# Altium footprint library micro-mc68000.PCBLIB: 13 footprints
Each footprint in its own frame and in the unit in brackets; x right, y up, seen from the top. Pads: shape width x height; smd on the part's side, far side on the other; paste and mask are expansions set on the pad; w line width, h text height; cw(c..) or ccw(c..) is an arc to the next point about the centre after c.
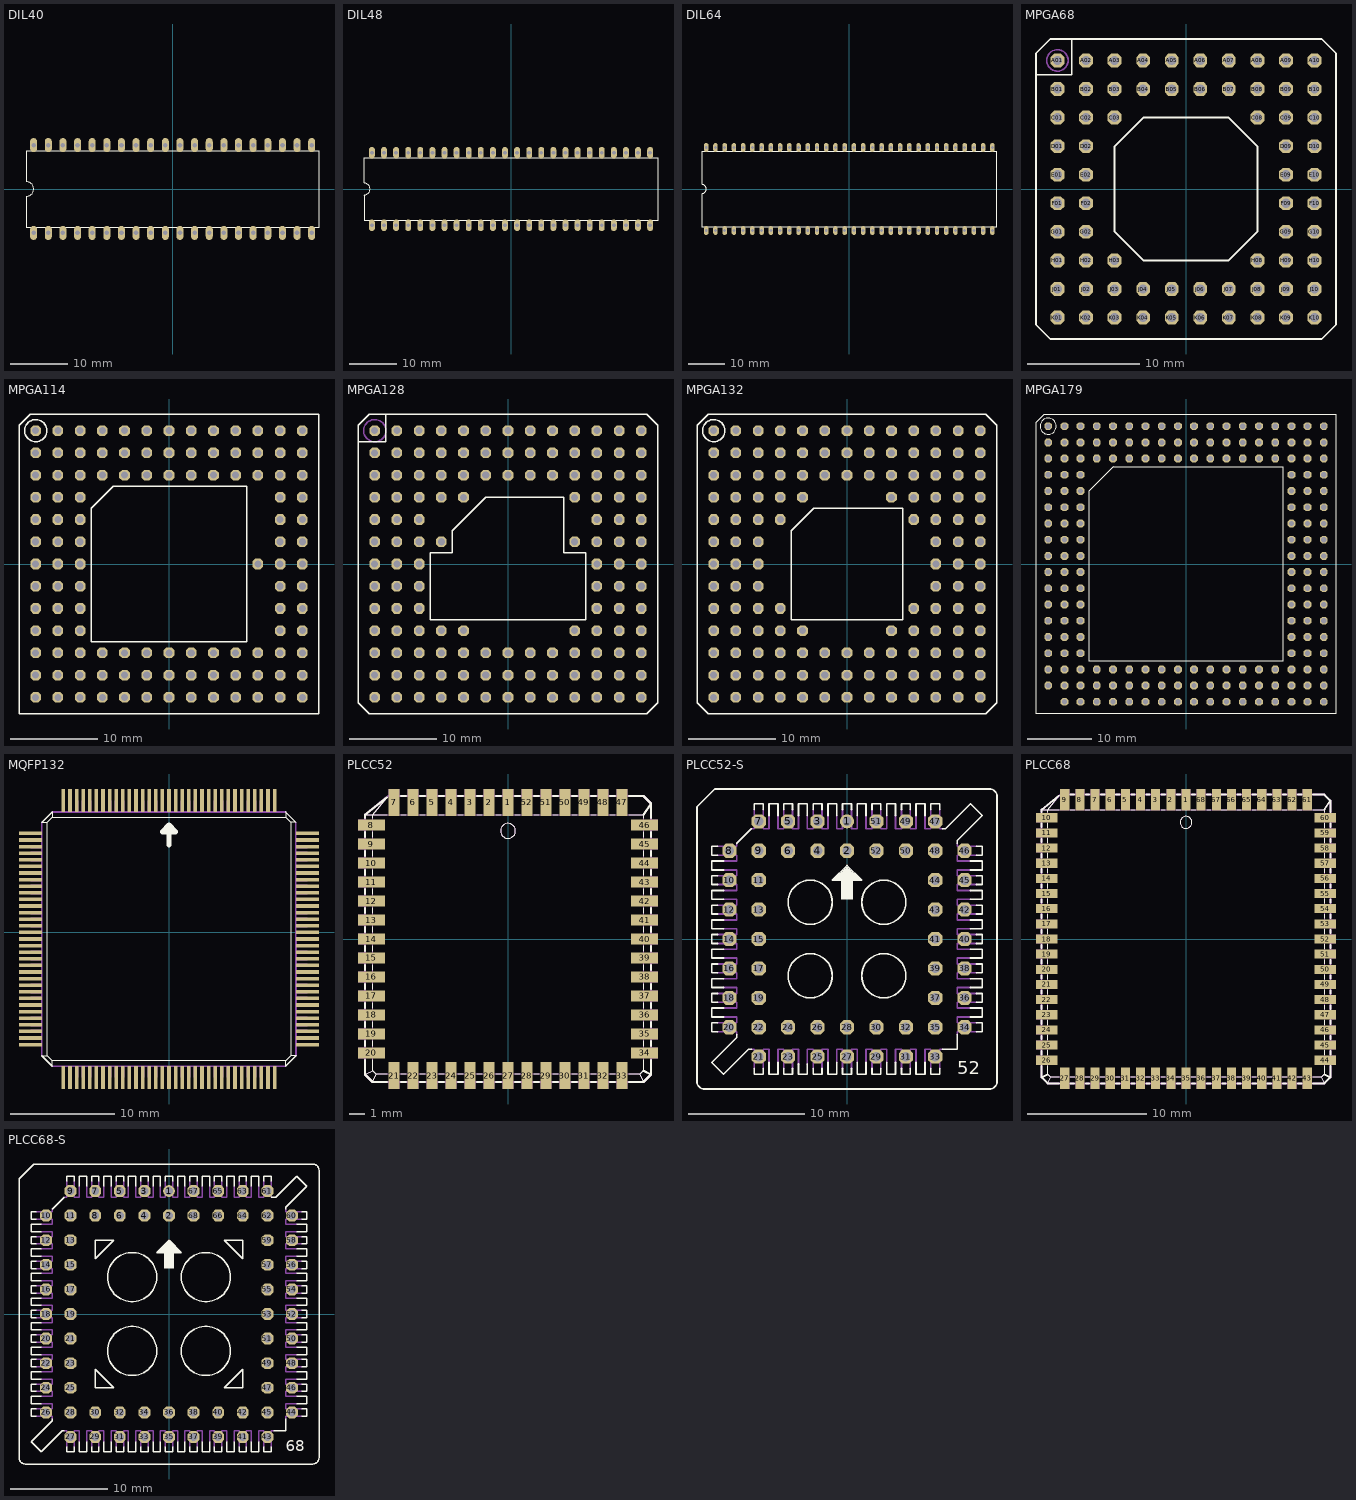
[diagram p0: the footprints below, top view; thin cyan lines are the x and y axes]

## DIL40 [mil]
pads (40):
  oval 48x96 hole 32: 1(-950,-300) 2(-850,-300) 3(-750,-300) 4(-650,-300) 5(-550,-300) 6(-450,-300) 7(-350,-300) 8(-250,-300) 9(-150,-300) 10(-50,-300) 11(50,-300) 12(150,-300) 13(250,-300) 14(350,-300) 15(450,-300) 16(550,-300) 17(650,-300) 18(750,-300) 19(850,-300) 20(950,-300) 21(950,300) 22(850,300) 23(750,300) 24(650,300) 25(550,300) 26(450,300) 27(350,300) 28(250,300) 29(150,300) 30(50,300) 31(-50,300) 32(-150,300) 33(-250,300) 34(-350,300) 35(-450,300) 36(-550,300) 37(-650,300) 38(-750,300) 39(-850,300) 40(-950,300)
Top Overlay:
  lines w6: -1000,-260 -1000,-50 ccw(c-1000,0) -1000,50 -1000,260 1000,260 1000,-260 -1000,-260

## DIL48 [mil]
pads (48):
  oval 48x96 hole 32: 1(-1150,-300) 2(-1050,-300) 3(-950,-300) 4(-850,-300) 5(-750,-300) 6(-650,-300) 7(-550,-300) 8(-450,-300) 9(-350,-300) 10(-250,-300) 11(-150,-300) 12(-50,-300) 13(50,-300) 14(150,-300) 15(250,-300) 16(350,-300) 17(450,-300) 18(550,-300) 19(650,-300) 20(750,-300) 21(850,-300) 22(950,-300) 23(1050,-300) 24(1150,-300) 25(1150,300) 26(1050,300) 27(950,300) 28(850,300) 29(750,300) 30(650,300) 31(550,300) 32(450,300) 33(350,300) 34(250,300) 35(150,300) 36(50,300) 37(-50,300) 38(-150,300) 39(-250,300) 40(-350,300) 41(-450,300) 42(-550,300) 43(-650,300) 44(-750,300) 45(-850,300) 46(-950,300) 47(-1050,300) 48(-1150,300)
Top Overlay:
  lines w6: -1215,-260 -1215,-50 ccw(c-1215,0) -1215,50 -1215,260 1215,260 1215,-260 -1215,-260

## DIL64 [mil]
pads (64):
  oval 48x96 hole 32: 1(-1550,-450) 2(-1450,-450) 3(-1350,-450) 4(-1250,-450) 5(-1150,-450) 6(-1050,-450) 7(-950,-450) 8(-850,-450) 9(-750,-450) 10(-650,-450) 11(-550,-450) 12(-450,-450) 13(-350,-450) 14(-250,-450) 15(-150,-450) 16(-50,-450) 17(50,-450) 18(150,-450) 19(250,-450) 20(350,-450) 21(450,-450) 22(550,-450) 23(650,-450) 24(750,-450) 25(850,-450) 26(950,-450) 27(1050,-450) 28(1150,-450) 29(1250,-450) 30(1350,-450) 31(1450,-450) 32(1550,-450) 33(1550,450) 34(1450,450) 35(1350,450) 36(1250,450) 37(1150,450) 38(1050,450) 39(950,450) 40(850,450) 41(750,450) 42(650,450) 43(550,450) 44(450,450) 45(350,450) 46(250,450) 47(150,450) 48(50,450) 49(-50,450) 50(-150,450) 51(-250,450) 52(-350,450) 53(-450,450) 54(-550,450) 55(-650,450) 56(-750,450) 57(-850,450) 58(-950,450) 59(-1050,450) 60(-1150,450) 61(-1250,450) 62(-1350,450) 63(-1450,450) 64(-1550,450)
Top Overlay:
  lines w6: -1600,-410 -1600,-50 ccw(c-1600,0) -1600,50 -1600,410 1600,410 1600,-410 -1600,-410

## MPGA68 [mil]
pads (68):
  oct 48x48 hole 32: A01(-450,450) A02(-350,450) A03(-250,450) A04(-150,450) A05(-50,450) A06(50,450) A07(150,450) A08(250,450) A09(350,450) A10(450,450) B01(-450,350) B02(-350,350) B03(-250,350) B04(-150,350) B05(-50,350) B06(50,350) B07(150,350) B08(250,350) B09(350,350) B10(450,350) C01(-450,250) C02(-350,250) C03(-250,250) C08(250,250) C09(350,250) C10(450,250) D01(-450,150) D02(-350,150) D09(350,150) D10(450,150) E01(-450,50) E02(-350,50) E09(350,50) E10(450,50) F01(-450,-50) F02(-350,-50) F09(350,-50) F10(450,-50) G01(-450,-150) G02(-350,-150) G09(350,-150) G10(450,-150) H01(-450,-250) H02(-350,-250) H03(-250,-250) H08(250,-250) H09(350,-250) H10(450,-250) J01(-450,-350) J02(-350,-350) J03(-250,-350) J04(-150,-350) J05(-50,-350) J06(50,-350) J07(150,-350) J08(250,-350) J09(350,-350) J10(450,-350) K01(-450,-450) K02(-350,-450) K03(-250,-450) K04(-150,-450) K05(-50,-450) K06(50,-450) K07(150,-450) K08(250,-450) K09(350,-450) K10(450,-450)
Top Overlay:
  lines w6: -525,400 -525,475 -475,525 -400,525 ; -525,400 -525,-475 -475,-525 475,-525 525,-475 525,475 475,525 -400,525 ; -525,400 -400,400 -400,525 ; -250,-150 -150,-250 150,-250 250,-150 250,150 150,250 -150,250 -250,150 -250,-150
Mechanical 16:
  circle w6: c-450,450 r37.5

## MPGA114 [mil]
pads (114):
  oct 48x48 hole 32: A01(-600,600) A02(-500,600) A03(-400,600) A04(-300,600) A05(-200,600) A06(-100,600) A07(0,600) A08(100,600) A09(200,600) A10(300,600) A11(400,600) A12(500,600) A13(600,600) B01(-600,500) B02(-500,500) B03(-400,500) B04(-300,500) B05(-200,500) B06(-100,500) B07(0,500) B08(100,500) B09(200,500) B10(300,500) B11(400,500) B12(500,500) B13(600,500) C01(-600,400) C02(-500,400) C03(-400,400) C04(-300,400) C05(-200,400) C06(-100,400) C07(0,400) C08(100,400) C09(200,400) C10(300,400) C11(400,400) C12(500,400) C13(600,400) D01(-600,300) D02(-500,300) D03(-400,300) D12(500,300) D13(600,300) E01(-600,200) E02(-500,200) E03(-400,200) E12(500,200) E13(600,200) F01(-600,100) F02(-500,100) F03(-400,100) F12(500,100) F13(600,100) G01(-600,0) G02(-500,0) G03(-400,0) G11(400,0) G12(500,0) G13(600,0) H01(-600,-100) H02(-500,-100) H03(-400,-100) H12(500,-100) H13(600,-100) J01(-600,-200) J02(-500,-200) J03(-400,-200) J12(500,-200) J13(600,-200) K01(-600,-300) K02(-500,-300) K03(-400,-300) K12(500,-300) K13(600,-300) L01(-600,-400) L02(-500,-400) L03(-400,-400) L04(-300,-400) L05(-200,-400) L06(-100,-400) L07(0,-400) L08(100,-400) L09(200,-400) L10(300,-400) L11(400,-400) L12(500,-400) L13(600,-400) M01(-600,-500) M02(-500,-500) M03(-400,-500) M04(-300,-500) M05(-200,-500) M06(-100,-500) M07(0,-500) M08(100,-500) M09(200,-500) M10(300,-500) M11(400,-500) M12(500,-500) M13(600,-500) N01(-600,-600) N02(-500,-600) N03(-400,-600) N04(-300,-600) N05(-200,-600) N06(-100,-600) N07(0,-600) N08(100,-600) N09(200,-600) N10(300,-600) N11(400,-600) N12(500,-600) N13(600,-600)
Top Overlay:
  circle w6: c-600,600 r50
  lines w6: -675,-675 675,-675 675,675 -625,675 -675,625 -675,-675 ; -350,-350 -350,250 -250,350 350,350 350,-350 -350,-350

## MPGA128 [mil]
pads (128):
  oct 48x48 hole 32: A01(-600,600) A02(-500,600) A03(-400,600) A04(-300,600) A05(-200,600) A06(-100,600) A07(0,600) A08(100,600) A09(200,600) A10(300,600) A11(400,600) A12(500,600) A13(600,600) B01(-600,500) B02(-500,500) B03(-400,500) B04(-300,500) B05(-200,500) B06(-100,500) B07(0,500) B08(100,500) B09(200,500) B10(300,500) B11(400,500) B12(500,500) B13(600,500) C01(-600,400) C02(-500,400) C03(-400,400) C04(-300,400) C05(-200,400) C06(-100,400) C07(0,400) C08(100,400) C09(200,400) C10(300,400) C11(400,400) C12(500,400) C13(600,400) D01(-600,300) D02(-500,300) D03(-400,300) D04(-300,300) D05(-200,300) D10(300,300) D11(400,300) D12(500,300) D13(600,300) E01(-600,200) E02(-500,200) E03(-400,200) E11(400,200) E12(500,200) E13(600,200) F01(-600,100) F02(-500,100) F03(-400,100) F04(-300,100) F10(300,100) F11(400,100) F12(500,100) F13(600,100) G01(-600,0) G02(-500,0) G03(-400,0) G11(400,0) G12(500,0) G13(600,0) H01(-600,-100) H02(-500,-100) H03(-400,-100) H11(400,-100) H12(500,-100) H13(600,-100) J01(-600,-200) J02(-500,-200) J03(-400,-200) J11(400,-200) J12(500,-200) J13(600,-200) K01(-600,-300) K02(-500,-300) K03(-400,-300) K04(-300,-300) K05(-200,-300) K10(300,-300) K11(400,-300) K12(500,-300) K13(600,-300) L01(-600,-400) L02(-500,-400) L03(-400,-400) L04(-300,-400) L05(-200,-400) L06(-100,-400) L07(0,-400) L08(100,-400) L09(200,-400) L10(300,-400) L11(400,-400) L12(500,-400) L13(600,-400) M01(-600,-500) M02(-500,-500) M03(-400,-500) M04(-300,-500) M05(-200,-500) M06(-100,-500) M07(0,-500) M08(100,-500) M09(200,-500) M10(300,-500) M11(400,-500) M12(500,-500) M13(600,-500) N01(-600,-600) N02(-500,-600) N03(-400,-600) N04(-300,-600) N05(-200,-600) N06(-100,-600) N07(0,-600) N08(100,-600) N09(200,-600) N10(300,-600) N11(400,-600) N12(500,-600) N13(600,-600)
Top Overlay:
  lines w6: -675,550 -675,-625 -625,-675 625,-675 675,-625 675,625 625,675 -550,675 ; -675,550 -675,625 -625,675 -550,675 ; -675,550 -550,550 -550,675 ; -350,-250 350,-250 350,50 250,50 250,300 -100,300 -250,150 -250,50 -350,50 -350,-250
Mechanical 16:
  circle w6: c-600,600 r50

## MPGA132 [mil]
pads (132):
  oct 48x48 hole 32: A01(-600,600) A02(-500,600) A03(-400,600) A04(-300,600) A05(-200,600) A06(-100,600) A07(0,600) A08(100,600) A09(200,600) A10(300,600) A11(400,600) A12(500,600) A13(600,600) B01(-600,500) B02(-500,500) B03(-400,500) B04(-300,500) B05(-200,500) B06(-100,500) B07(0,500) B08(100,500) B09(200,500) B10(300,500) B11(400,500) B12(500,500) B13(600,500) C01(-600,400) C02(-500,400) C03(-400,400) C04(-300,400) C05(-200,400) C06(-100,400) C07(0,400) C08(100,400) C09(200,400) C10(300,400) C11(400,400) C12(500,400) C13(600,400) D01(-600,300) D02(-500,300) D03(-400,300) D04(-300,300) D05(-200,300) D09(200,300) D10(300,300) D11(400,300) D12(500,300) D13(600,300) E01(-600,200) E02(-500,200) E03(-400,200) E04(-300,200) E10(300,200) E11(400,200) E12(500,200) E13(600,200) F01(-600,100) F02(-500,100) F03(-400,100) F11(400,100) F12(500,100) F13(600,100) G01(-600,0) G02(-500,0) G03(-400,0) G11(400,0) G12(500,0) G13(600,0) H01(-600,-100) H02(-500,-100) H03(-400,-100) H11(400,-100) H12(500,-100) H13(600,-100) J01(-600,-200) J02(-500,-200) J03(-400,-200) J04(-300,-200) J10(300,-200) J11(400,-200) J12(500,-200) J13(600,-200) K01(-600,-300) K02(-500,-300) K03(-400,-300) K04(-300,-300) K05(-200,-300) K09(200,-300) K10(300,-300) K11(400,-300) K12(500,-300) K13(600,-300) L01(-600,-400) L02(-500,-400) L03(-400,-400) L04(-300,-400) L05(-200,-400) L06(-100,-400) L07(0,-400) L08(100,-400) L09(200,-400) L10(300,-400) L11(400,-400) L12(500,-400) L13(600,-400) M01(-600,-500) M02(-500,-500) M03(-400,-500) M04(-300,-500) M05(-200,-500) M06(-100,-500) M07(0,-500) M08(100,-500) M09(200,-500) M10(300,-500) M11(400,-500) M12(500,-500) M13(600,-500) N01(-600,-600) N02(-500,-600) N03(-400,-600) N04(-300,-600) N05(-200,-600) N06(-100,-600) N07(0,-600) N08(100,-600) N09(200,-600) N10(300,-600) N11(400,-600) N12(500,-600) N13(600,-600)
Top Overlay:
  circle w6: c-600,600 r50
  lines w6: -675,-625 -625,-675 625,-675 675,-625 675,625 625,675 -625,675 -675,625 -675,-625 ; -250,-250 250,-250 250,250 -150,250 -250,150 -250,-250

## MPGA179 [mil]
pads (179):
  oct 48x48 hole 32: A01(-850,850) A02(-750,850) A03(-650,850) A04(-550,850) A05(-450,850) A06(-350,850) A07(-250,850) A08(-150,850) A09(-50,850) A10(50,850) A11(150,850) A12(250,850) A13(350,850) A14(450,850) A15(550,850) A16(650,850) A17(750,850) A18(850,850) B01(-850,750) B02(-750,750) B03(-650,750) B04(-550,750) B05(-450,750) B06(-350,750) B07(-250,750) B08(-150,750) B09(-50,750) B10(50,750) B11(150,750) B12(250,750) B13(350,750) B14(450,750) B15(550,750) B16(650,750) B17(750,750) B18(850,750) C01(-850,650) C02(-750,650) C03(-650,650) C04(-550,650) C05(-450,650) C06(-350,650) C07(-250,650) C08(-150,650) C09(-50,650) C10(50,650) C11(150,650) C12(250,650) C13(350,650) C14(450,650) C15(550,650) C16(650,650) C17(750,650) C18(850,650) D01(-850,550) D02(-750,550) D03(-650,550) D16(650,550) D17(750,550) D18(850,550) E01(-850,450) E02(-750,450) E03(-650,450) E16(650,450) E17(750,450) E18(850,450) F01(-850,350) F02(-750,350) F03(-650,350) F16(650,350) F17(750,350) F18(850,350) G01(-850,250) G02(-750,250) G03(-650,250) G16(650,250) G17(750,250) G18(850,250) H01(-850,150) H02(-750,150) H03(-650,150) H16(650,150) H17(750,150) H18(850,150) J01(-850,50) J02(-750,50) J03(-650,50) J16(650,50) J17(750,50) J18(850,50) K01(-850,-50) K02(-750,-50) K03(-650,-50) K16(650,-50) K17(750,-50) K18(850,-50) L01(-850,-150) L02(-750,-150) L03(-650,-150) L16(650,-150) L17(750,-150) L18(850,-150) M01(-850,-250) M02(-750,-250) M03(-650,-250) M16(650,-250) M17(750,-250) M18(850,-250) N01(-850,-350) N02(-750,-350) N03(-650,-350) N16(650,-350) N17(750,-350) N18(850,-350) P01(-850,-450) P02(-750,-450) P03(-650,-450) P16(650,-450) P17(750,-450) P18(850,-450) Q01(-850,-550) Q02(-750,-550) Q03(-650,-550) Q16(650,-550) Q17(750,-550) Q18(850,-550) R01(-850,-650) R02(-750,-650) R03(-650,-650) R04(-550,-650) R05(-450,-650) R06(-350,-650) R07(-250,-650) R08(-150,-650) R09(-50,-650) R10(50,-650) R11(150,-650) R12(250,-650) R13(350,-650) R14(450,-650) R15(550,-650) R16(650,-650) R17(750,-650) R18(850,-650) S01(-850,-750) S02(-750,-750) S03(-650,-750) S04(-550,-750) S05(-450,-750) S06(-350,-750) S07(-250,-750) S08(-150,-750) S09(-50,-750) S10(50,-750) S11(150,-750) S12(250,-750) S13(350,-750) S14(450,-750) S15(550,-750) S16(650,-750) S17(750,-750) S18(850,-750) T02(-750,-850) T03(-650,-850) T04(-550,-850) T05(-450,-850) T06(-350,-850) T07(-250,-850) T08(-150,-850) T09(-50,-850) T10(50,-850) T11(150,-850) T12(250,-850) T13(350,-850) T14(450,-850) T15(550,-850) T16(650,-850) T17(750,-850) T18(850,-850)
Top Overlay:
  circle w6: c-850,850 r50
  lines w6: -925,-925 925,-925 925,925 -875,925 -925,875 -925,-925 ; -600,-600 600,-600 600,600 -450,600 -600,450 -600,-600

## MQFP132 [mm]
pads (132):
  rect 0.35x2.2 smd: 1(0,12.7) 2(-0.635,12.7) 3(-1.27,12.7) 4(-1.905,12.7) 5(-2.54,12.7) 6(-3.175,12.7) 7(-3.81,12.7) 8(-4.445,12.7) 9(-5.08,12.7) 10(-5.715,12.7) 11(-6.35,12.7) 12(-6.985,12.7) 13(-7.62,12.7) 14(-8.255,12.7) 15(-8.89,12.7) 16(-9.525,12.7) 17(-10.16,12.7) 51(-10.16,-13.97) 52(-9.525,-13.97) 53(-8.89,-13.97) 54(-8.255,-13.97) 55(-7.62,-13.97) 56(-6.985,-13.97) 57(-6.35,-13.97) 58(-5.715,-13.97) 59(-5.08,-13.97) 60(-4.445,-13.97) 61(-3.81,-13.97) 62(-3.175,-13.97) 63(-2.54,-13.97) 64(-1.905,-13.97) 65(-1.27,-13.97) 66(-0.635,-13.97) 67(0,-13.97) 68(0.635,-13.97) 69(1.27,-13.97) 70(1.905,-13.97) 71(2.54,-13.97) 72(3.175,-13.97) 73(3.81,-13.97) 74(4.445,-13.97) 75(5.08,-13.97) 76(5.715,-13.97) 77(6.35,-13.97) 78(6.985,-13.97) 79(7.62,-13.97) 80(8.255,-13.97) 81(8.89,-13.97) 82(9.525,-13.97) 83(10.16,-13.97) 117(10.16,12.7) 118(9.525,12.7) 119(8.89,12.7) 120(8.255,12.7) 121(7.62,12.7) 122(6.985,12.7) 123(6.35,12.7) 124(5.715,12.7) 125(5.08,12.7) 126(4.445,12.7) 127(3.81,12.7) 128(3.175,12.7) 129(2.54,12.7) 130(1.905,12.7) 131(1.27,12.7) 132(0.635,12.7)
  rect 2.2x0.35 smd: 18(-13.335,9.525) 19(-13.335,8.89) 20(-13.335,8.255) 21(-13.335,7.62) 22(-13.335,6.985) 23(-13.335,6.35) 24(-13.335,5.715) 25(-13.335,5.08) 26(-13.335,4.445) 27(-13.335,3.81) 28(-13.335,3.175) 29(-13.335,2.54) 30(-13.335,1.905) 31(-13.335,1.27) 32(-13.335,0.635) 33(-13.335,0) 34(-13.335,-0.635) 35(-13.335,-1.27) 36(-13.335,-1.905) 37(-13.335,-2.54) 38(-13.335,-3.175) 39(-13.335,-3.81) 40(-13.335,-4.445) 41(-13.335,-5.08) 42(-13.335,-5.715) 43(-13.335,-6.35) 44(-13.335,-6.985) 45(-13.335,-7.62) 46(-13.335,-8.255) 47(-13.335,-8.89) 48(-13.335,-9.525) 49(-13.335,-10.16) 50(-13.335,-10.795) 84(13.335,-10.795) 85(13.335,-10.16) 86(13.335,-9.525) 87(13.335,-8.89) 88(13.335,-8.255) 89(13.335,-7.62) 90(13.335,-6.985) 91(13.335,-6.35) 92(13.335,-5.715) 93(13.335,-5.08) 94(13.335,-4.445) 95(13.335,-3.81) 96(13.335,-3.175) 97(13.335,-2.54) 98(13.335,-1.905) 99(13.335,-1.27) 100(13.335,-0.635) 101(13.335,0) 102(13.335,0.635) 103(13.335,1.27) 104(13.335,1.905) 105(13.335,2.54) 106(13.335,3.175) 107(13.335,3.81) 108(13.335,4.445) 109(13.335,5.08) 110(13.335,5.715) 111(13.335,6.35) 112(13.335,6.985) 113(13.335,7.62) 114(13.335,8.255) 115(13.335,8.89) 116(13.335,9.525)
Top Overlay:
  lines w0.051: -12.233,-11.868 -11.733,-11.868 ; -12.233,10.583 -11.733,10.583 ; -11.233,-12.868 -11.233,-12.368 ; -11.233,11.583 -11.233,11.083 ; 11.217,11.583 11.217,11.083 ; 11.218,-12.868 11.218,-12.368 ; 12.218,-11.868 11.718,-11.868 ; 12.217,10.583 11.717,10.583 ; -11.733,-11.868 -11.733,10.583 ; -11.733,-11.868 -11.233,-12.368 ; -11.733,10.583 -11.233,11.083 ; -11.233,-12.368 11.218,-12.368 ; -11.233,11.083 11.217,11.083 ; 11.217,11.083 11.717,10.583 ; 11.218,-12.368 11.718,-11.868 ; 11.717,10.583 11.718,-11.868
  lines w0.152: -12.233,-11.868 -11.233,-12.868 ; -12.233,10.583 -11.233,11.583 ; 11.217,11.583 12.217,10.583 ; 11.218,-12.868 12.218,-11.868
  lines w0.508: 0,8.414 0,10.319 ; 0,10.319 0.635,9.684 -0.635,9.684 0,10.319
Mechanical 16:
  rectangle: 1.111,11.589 1.429,12.7
  rectangle: 1.746,11.589 2.064,12.7
  rectangle: 2.381,11.589 2.699,12.7
  rectangle: 3.016,11.589 3.334,12.7
  rectangle: 3.651,11.589 3.969,12.7
  rectangle: 4.286,11.589 4.604,12.7
  rectangle: 0.476,11.589 0.794,12.7
  rectangle: -0.159,11.589 0.159,12.7
  rectangle: -0.794,11.589 -0.476,12.7
  rectangle: -1.429,11.589 -1.111,12.7
  rectangle: -2.064,11.589 -1.746,12.7
  rectangle: -2.699,11.589 -2.381,12.7
  rectangle: -3.334,11.589 -3.016,12.7
  rectangle: -3.969,11.589 -3.651,12.7
  rectangle: -4.604,11.589 -4.286,12.7
  rectangle: -5.239,11.589 -4.921,12.7
  rectangle: -5.874,11.589 -5.556,12.7
  rectangle: -6.509,11.589 -6.191,12.7
  rectangle: -7.144,11.589 -6.826,12.7
  rectangle: -7.779,11.589 -7.461,12.7
  rectangle: -8.414,11.589 -8.096,12.7
  rectangle: -9.049,11.589 -8.731,12.7
  rectangle: -9.684,11.589 -9.366,12.7
  rectangle: -10.319,11.589 -10.001,12.7
  rectangle: 4.921,11.589 5.239,12.7
  rectangle: 5.556,11.589 5.874,12.7
  rectangle: 6.191,11.589 6.509,12.7
  rectangle: 6.826,11.589 7.144,12.7
  rectangle: 7.461,11.589 7.779,12.7
  rectangle: 8.096,11.589 8.414,12.7
  rectangle: 8.731,11.589 9.049,12.7
  rectangle: 9.366,11.589 9.684,12.7
  rectangle: 10.001,11.589 10.319,12.7
  rectangle: 12.224,9.366 13.335,9.684
  rectangle: 12.224,8.731 13.335,9.049
  rectangle: 12.224,8.096 13.335,8.414
  rectangle: 12.224,7.461 13.335,7.779
  rectangle: 12.224,6.826 13.335,7.144
  rectangle: 12.224,6.191 13.335,6.509
  rectangle: 12.224,5.556 13.335,5.874
  rectangle: 12.224,4.921 13.335,5.239
  rectangle: 12.224,4.286 13.335,4.604
  rectangle: 12.224,3.651 13.335,3.969
  rectangle: 12.224,3.016 13.335,3.334
  rectangle: 12.224,2.381 13.335,2.699
  rectangle: 12.224,1.746 13.335,2.064
  rectangle: 12.224,1.111 13.335,1.429
  rectangle: 12.224,0.476 13.335,0.794
  rectangle: 12.224,-0.159 13.335,0.159
  rectangle: 12.224,-0.794 13.335,-0.476
  rectangle: 12.224,-1.429 13.335,-1.111
  rectangle: 12.224,-2.064 13.335,-1.746
  rectangle: 12.224,-2.699 13.335,-2.381
  rectangle: 12.224,-3.334 13.335,-3.016
  rectangle: 12.224,-3.969 13.335,-3.651
  rectangle: 12.224,-4.604 13.335,-4.286
  rectangle: 12.224,-5.239 13.335,-4.921
  rectangle: 12.224,-5.874 13.335,-5.556
  rectangle: 12.224,-6.509 13.335,-6.191
  rectangle: 12.224,-7.144 13.335,-6.826
  rectangle: 12.224,-7.779 13.335,-7.461
  rectangle: 12.224,-8.414 13.335,-8.096
  rectangle: 12.224,-9.049 13.335,-8.731
  rectangle: 12.224,-9.684 13.335,-9.366
  rectangle: 12.224,-10.319 13.335,-10.001
  rectangle: 12.224,-10.954 13.335,-10.636
  rectangle: 10.001,-13.97 10.319,-12.859
  rectangle: 9.366,-13.97 9.684,-12.859
  rectangle: 8.731,-13.97 9.049,-12.859
  rectangle: 8.096,-13.97 8.414,-12.859
  rectangle: 7.461,-13.97 7.779,-12.859
  rectangle: 6.826,-13.97 7.144,-12.859
  rectangle: 6.191,-13.97 6.509,-12.859
  rectangle: 5.556,-13.97 5.874,-12.859
  rectangle: 4.921,-13.97 5.239,-12.859
  rectangle: 4.286,-13.97 4.604,-12.859
  rectangle: 3.651,-13.97 3.969,-12.859
  rectangle: 3.016,-13.97 3.334,-12.859
  rectangle: 2.381,-13.97 2.699,-12.859
  rectangle: 1.746,-13.97 2.064,-12.859
  rectangle: 1.111,-13.97 1.429,-12.859
  rectangle: 0.476,-13.97 0.794,-12.859
  rectangle: -0.159,-13.97 0.159,-12.859
  rectangle: -0.794,-13.97 -0.476,-12.859
  rectangle: -1.429,-13.97 -1.111,-12.859
  rectangle: -2.064,-13.97 -1.746,-12.859
  rectangle: -2.699,-13.97 -2.381,-12.859
  rectangle: -3.334,-13.97 -3.016,-12.859
  rectangle: -3.969,-13.97 -3.651,-12.859
  rectangle: -4.604,-13.97 -4.286,-12.859
  rectangle: -5.239,-13.97 -4.921,-12.859
  rectangle: -5.874,-13.97 -5.556,-12.859
  rectangle: -6.509,-13.97 -6.191,-12.859
  rectangle: -7.144,-13.97 -6.826,-12.859
  rectangle: -7.779,-13.97 -7.461,-12.859
  rectangle: -8.414,-13.97 -8.096,-12.859
  rectangle: -9.049,-13.97 -8.731,-12.859
  rectangle: -9.684,-13.97 -9.366,-12.859
  rectangle: -10.319,-13.97 -10.001,-12.859
  rectangle: -13.335,-10.954 -12.224,-10.636
  rectangle: -13.335,-10.319 -12.224,-10.001
  rectangle: -13.335,-9.684 -12.224,-9.366
  rectangle: -13.335,-9.049 -12.224,-8.731
  rectangle: -13.335,-8.414 -12.224,-8.096
  rectangle: -13.335,-7.779 -12.224,-7.461
  rectangle: -13.335,-7.144 -12.224,-6.826
  rectangle: -13.335,-6.509 -12.224,-6.191
  rectangle: -13.335,-5.874 -12.224,-5.556
  rectangle: -13.335,-5.239 -12.224,-4.921
  rectangle: -13.335,-4.604 -12.224,-4.286
  rectangle: -13.335,-3.969 -12.224,-3.651
  rectangle: -13.335,-3.334 -12.224,-3.016
  rectangle: -13.335,-2.699 -12.224,-2.381
  rectangle: -13.335,-2.064 -12.224,-1.746
  rectangle: -13.335,-1.429 -12.224,-1.111
  rectangle: -13.335,-0.794 -12.224,-0.476
  rectangle: -13.335,-0.159 -12.224,0.159
  rectangle: -13.335,0.476 -12.224,0.794
  rectangle: -13.335,1.111 -12.224,1.429
  rectangle: -13.335,1.746 -12.224,2.064
  rectangle: -13.335,2.381 -12.224,2.699
  rectangle: -13.335,3.016 -12.224,3.334
  rectangle: -13.335,3.651 -12.224,3.969
  rectangle: -13.335,4.286 -12.224,4.604
  rectangle: -13.335,4.921 -12.224,5.239
  rectangle: -13.335,5.556 -12.224,5.874
  rectangle: -13.335,6.191 -12.224,6.509
  rectangle: -13.335,6.826 -12.224,7.144
  rectangle: -13.335,7.461 -12.224,7.779
  rectangle: -13.335,8.096 -12.224,8.414
  rectangle: -13.335,9.366 -12.224,9.684
  lines w0.152: -12.233,-11.868 -12.233,10.583 ; -11.233,-12.868 11.218,-12.868 ; -11.233,11.583 11.217,11.583 ; 12.218,-11.868 12.217,10.583

## PLCC52 [mil]
pads (52):
  rect 29.92x70.87 smd: 1(0,359.45) 2(-50,359.45) 3(-100,359.45) 4(-150,359.45) 5(-200,359.45) 6(-250,359.45) 7(-300,359.45) 21(-300,-359.45) 22(-250,-359.45) 23(-200,-359.45) 24(-150,-359.45) 25(-100,-359.45) 26(-50,-359.45) 27(0,-359.45) 28(50,-359.45) 29(100,-359.45) 30(150,-359.45) 31(200,-359.45) 32(250,-359.45) 33(300,-359.45) 47(300,359.45) 48(250,359.45) 49(200,359.45) 50(150,359.45) 51(100,359.45) 52(50,359.45)
  rect 70.87x29.92 smd: 8(-359.45,300) 9(-359.45,250) 10(-359.45,200) 11(-359.45,150) 12(-359.45,100) 13(-359.45,50) 14(-359.45,0) 15(-359.45,-50) 16(-359.45,-100) 17(-359.45,-150) 18(-359.45,-200) 19(-359.45,-250) 20(-359.45,-300) 34(359.45,-300) 35(359.45,-250) 36(359.45,-200) 37(359.45,-150) 38(359.45,-100) 39(359.45,-50) 40(359.45,0) 41(359.45,50) 42(359.45,100) 43(359.45,150) 44(359.45,200) 45(359.45,250) 46(359.45,300)
Top Overlay:
  circle w2: c0,284.65 r19.69
  lines w2: -376.38,-356.69 -356.69,-346.85 ; -376.38,327.17 -356.69,327.17 ; -356.69,-376.38 -346.85,-356.69 ; -356.69,-317.76 -356.69,-346.85 ; -356.69,-282.24 -356.69,-267.76 ; -356.69,-232.24 -356.69,-217.76 ; -356.69,-182.24 -356.69,-167.76 ; -356.69,-132.24 -356.69,-117.76 ; -356.69,-82.24 -356.69,-67.76 ; -356.69,-32.24 -356.69,-17.76 ; -356.69,17.76 -356.69,32.24 ; -356.69,67.76 -356.69,82.24 ; -356.69,117.76 -356.69,132.24 ; -356.69,167.76 -356.69,182.24 ; -356.69,217.76 -356.69,232.24 ; -356.69,267.76 -356.69,282.24 ; -356.69,317.76 -356.69,327.17 ; -319.76,371.57 -356.69,327.17 ; -317.76,-356.69 -346.85,-356.69 ; -317.76,327.17 -356.69,327.17 ; -282.24,-356.69 -267.76,-356.69 ; -282.24,327.17 -267.76,327.17 ; -232.24,-356.69 -217.76,-356.69 ; -232.24,327.17 -217.76,327.17 ; -182.24,-356.69 -167.76,-356.69 ; -182.24,327.17 -167.76,327.17 ; -132.24,-356.69 -117.76,-356.69 ; -132.24,327.17 -117.76,327.17 ; -82.24,-356.69 -67.76,-356.69 ; -82.24,327.17 -67.76,327.17 ; -32.24,-356.69 -17.76,-356.69 ; -32.24,327.17 -17.76,327.17 ; 17.76,-356.69 32.24,-356.69 ; 17.76,327.17 32.24,327.17 ; 67.76,-356.69 82.24,-356.69 ; 67.76,327.17 82.24,327.17 ; 117.76,-356.69 132.24,-356.69 ; 117.76,327.17 132.24,327.17 ; 167.76,-356.69 182.24,-356.69 ; 167.76,327.17 182.24,327.17 ; 217.76,-356.69 232.24,-356.69 ; 217.76,327.17 232.24,327.17 ; 267.76,-356.69 282.24,-356.69 ; 267.76,327.17 282.24,327.17 ; 317.76,-356.69 346.85,-356.69 ; 317.76,327.17 356.69,327.17 356.69,317.76 ; 356.69,-376.38 346.85,-356.69 ; 356.69,-317.76 356.69,-346.85 346.85,-356.69 ; 356.69,-282.24 356.69,-267.76 ; 356.69,-232.24 356.69,-217.76 ; 356.69,-182.24 356.69,-167.76 ; 356.69,-132.24 356.69,-117.76 ; 356.69,-82.24 356.69,-67.76 ; 356.69,-32.24 356.69,-17.76 ; 356.69,17.76 356.69,32.24 ; 356.69,67.76 356.69,82.24 ; 356.69,117.76 356.69,132.24 ; 356.69,167.76 356.69,182.24 ; 356.69,217.76 356.69,232.24 ; 356.69,267.76 356.69,282.24 ; -356.69,-346.85 -346.85,-356.69
  lines w6: -376.38,-319.33 -376.38,-356.69 -356.69,-376.38 -319.33,-376.38 ; -376.38,-280.67 -376.38,-269.33 ; -376.38,-230.67 -376.38,-219.33 ; -376.38,-180.67 -376.38,-169.33 ; -376.38,-130.67 -376.38,-119.33 ; -376.38,-80.67 -376.38,-69.33 ; -376.38,-30.67 -376.38,-19.33 ; -376.38,19.33 -376.38,30.67 ; -376.38,69.33 -376.38,80.67 ; -376.38,119.33 -376.38,130.67 ; -376.38,169.33 -376.38,180.67 ; -376.38,219.33 -376.38,230.67 ; -376.38,269.33 -376.38,280.67 ; -376.38,319.33 -376.38,327.17 -319.33,372.4 ; -280.67,-376.38 -269.33,-376.38 ; -280.67,376.38 -269.33,376.38 ; -230.67,-376.38 -219.33,-376.38 ; -230.67,376.38 -219.33,376.38 ; -180.67,-376.38 -169.33,-376.38 ; -180.67,376.38 -169.33,376.38 ; -130.67,-376.38 -119.33,-376.38 ; -130.67,376.38 -119.33,376.38 ; -80.67,-376.38 -69.33,-376.38 ; -80.67,376.38 -69.33,376.38 ; -30.67,-376.38 -19.33,-376.38 ; -30.67,376.38 -19.33,376.38 ; 19.33,-376.38 30.67,-376.38 ; 19.33,376.38 30.67,376.38 ; 69.33,-376.38 80.67,-376.38 ; 69.33,376.38 80.67,376.38 ; 119.33,-376.38 130.67,-376.38 ; 119.33,376.38 130.67,376.38 ; 169.33,-376.38 180.67,-376.38 ; 169.33,376.38 180.67,376.38 ; 219.33,-376.38 230.67,-376.38 ; 219.33,376.38 230.67,376.38 ; 269.33,-376.38 280.67,-376.38 ; 269.33,376.38 280.67,376.38 ; 319.33,-376.38 356.69,-376.38 376.38,-356.69 ; 319.33,376.38 356.69,376.38 376.38,356.69 ; 356.69,-346.85 376.38,-356.69 ; 356.69,327.17 376.38,356.69 ; 376.38,-319.33 376.38,-356.69 ; 376.38,-280.67 376.38,-269.33 ; 376.38,-230.67 376.38,-219.33 ; 376.38,-180.67 376.38,-169.33 ; 376.38,-130.67 376.38,-119.33 ; 376.38,-80.67 376.38,-69.33 ; 376.38,-30.67 376.38,-19.33 ; 376.38,19.33 376.38,30.67 ; 376.38,69.33 376.38,80.67 ; 376.38,119.33 376.38,130.67 ; 376.38,169.33 376.38,180.67 ; 376.38,219.33 376.38,230.67 ; 376.38,269.33 376.38,280.67 ; 376.38,319.33 376.38,356.69
Mechanical 16:
  circle w2: c0,284.65 r19.69
  rectangle: 376.38,85.04 394.88,114.96
  rectangle: 376.38,35.04 394.88,64.96
  rectangle: 376.38,-14.96 394.88,14.96
  rectangle: 376.38,-64.96 394.88,-35.04
  rectangle: 376.38,-114.96 394.88,-85.04
  rectangle: 376.38,-164.96 394.88,-135.04
  rectangle: 376.38,-214.96 394.88,-185.04
  rectangle: 135.04,-394.88 164.96,-376.38
  rectangle: 85.04,-394.88 114.96,-376.38
  rectangle: 35.04,-394.88 64.96,-376.38
  rectangle: -14.96,-394.88 14.96,-376.38
  rectangle: -64.96,-394.88 -35.04,-376.38
  rectangle: -114.96,-394.88 -85.04,-376.38
  rectangle: -314.96,-394.88 -285.04,-376.38
  rectangle: -394.88,185.04 -376.38,214.96
  rectangle: -394.88,135.04 -376.38,164.96
  rectangle: -394.88,85.04 -376.38,114.96
  rectangle: -394.88,35.04 -376.38,64.96
  rectangle: -394.88,-14.96 -376.38,14.96
  rectangle: -394.88,-64.96 -376.38,-35.04
  rectangle: -394.88,-114.96 -376.38,-85.04
  rectangle: 135.04,376.38 164.96,394.88
  rectangle: 85.04,376.38 114.96,394.88
  rectangle: 35.04,376.38 64.96,394.88
  rectangle: -14.96,376.38 14.96,394.88
  rectangle: -64.96,376.38 -35.04,394.88
  rectangle: -114.96,376.38 -85.04,394.88
  rectangle: -314.96,376.38 -285.04,394.88
  rectangle: 376.38,135.04 394.88,164.96
  rectangle: 376.38,185.04 394.88,214.96
  rectangle: -394.88,-164.96 -376.38,-135.04
  rectangle: -394.88,-214.96 -376.38,-185.04
  rectangle: 185.04,376.38 214.96,394.88
  rectangle: 285.04,376.38 314.96,394.88
  rectangle: -164.96,376.38 -135.04,394.88
  rectangle: -214.96,376.38 -185.04,394.88
  rectangle: -394.88,-314.96 -376.38,-285.04
  rectangle: -214.96,-394.88 -185.04,-376.38
  rectangle: -164.96,-394.88 -135.04,-376.38
  rectangle: 185.04,-394.88 214.96,-376.38
  rectangle: 285.04,-394.88 314.96,-376.38
  rectangle: 376.38,-314.96 394.88,-285.04
  rectangle: 376.38,285.04 394.88,314.96
  rectangle: -394.88,285.04 -376.38,314.96
  rectangle: -264.96,376.38 -235.04,394.88
  rectangle: -394.88,235.04 -376.38,264.96
  rectangle: -394.88,-264.96 -376.38,-235.04
  rectangle: -264.96,-394.88 -235.04,-376.38
  rectangle: 235.04,-394.88 264.96,-376.38
  rectangle: 376.38,-264.96 394.88,-235.04
  rectangle: 376.38,235.04 394.88,264.96
  rectangle: 235.04,376.38 264.96,394.88
  lines w2: -376.38,-356.69 -356.69,-346.85 ; -376.38,327.17 -356.69,327.17 ; -356.69,-376.38 -346.85,-356.69 ; -314.96,376.38 -356.69,327.17 ; 356.69,-376.38 346.85,-356.69 ; 376.38,-356.69 356.69,-346.85 ; 376.38,356.69 356.69,327.17 ; -356.69,-346.85 -346.85,-356.69 ; -356.69,-346.85 -356.69,327.17 ; -356.69,327.17 356.69,327.17 ; -346.85,-356.69 346.85,-356.69 ; 346.85,-356.69 356.69,-346.85 ; 356.69,-346.85 356.69,327.17
  lines w6: -376.38,-356.69 -356.69,-376.38 356.69,-376.38 376.38,-356.69 376.38,356.69 356.69,376.38 -314.96,376.38 -376.38,327.17 -376.38,-356.69

## PLCC52-S [mil]
pads (52):
  round 48 hole 32: 1(0,400)
  oct 48x48 hole 32: 2(0,300) 3(-100,400) 4(-100,300) 5(-200,400) 6(-200,300) 7(-300,400) 8(-400,300) 9(-300,300) 10(-400,200) 11(-300,200) 12(-400,100) 13(-300,100) 14(-400,0) 15(-300,0) 16(-400,-100) 17(-300,-100) 18(-400,-200) 19(-300,-200) 20(-400,-300) 21(-300,-400) 22(-300,-300) 23(-200,-400) 24(-200,-300) 25(-100,-400) 26(-100,-300) 27(0,-400) 28(0,-300) 29(100,-400) 30(100,-300) 31(200,-400) 32(200,-300) 33(300,-400) 34(400,-300) 35(300,-300) 36(400,-200) 37(300,-200) 38(400,-100) 39(300,-100) 40(400,0) 41(300,0) 42(400,100) 43(300,100) 44(300,200) 45(400,200) 46(400,300) 47(300,400) 48(300,300) 49(200,400) 50(200,300) 51(100,400) 52(100,300)
Top Overlay:
  drawing of 199 lines, arcs and shapes, not listed
  text "52" at 375,-475 h77.5
Mechanical 16:
  drawing of 160 lines, arcs and shapes, not listed

## PLCC68 [mil]
pads (68):
  rect 29.92x70.87 smd: 1(0,459.45) 2(-50,459.45) 3(-100,459.45) 4(-150,459.45) 5(-200,459.45) 6(-250,459.45) 7(-300,459.45) 8(-350,459.45) 9(-400,459.45) 27(-400,-459.45) 28(-350,-459.45) 29(-300,-459.45) 30(-250,-459.45) 31(-200,-459.45) 32(-150,-459.45) 33(-100,-459.45) 34(-50,-459.45) 35(0,-459.45) 36(50,-459.45) 37(100,-459.45) 38(150,-459.45) 39(200,-459.45) 40(250,-459.45) 41(300,-459.45) 42(350,-459.45) 43(400,-459.45) 61(400,459.45) 62(350,459.45) 63(300,459.45) 64(250,459.45) 65(200,459.45) 66(150,459.45) 67(100,459.45) 68(50,459.45)
  rect 70.87x29.92 smd: 10(-459.45,400) 11(-459.45,350) 12(-459.45,300) 13(-459.45,250) 14(-459.45,200) 15(-459.45,150) 16(-459.45,100) 17(-459.45,50) 18(-459.45,0) 19(-459.45,-50) 20(-459.45,-100) 21(-459.45,-150) 22(-459.45,-200) 23(-459.45,-250) 24(-459.45,-300) 25(-459.45,-350) 26(-459.45,-400) 44(459.45,-400) 45(459.45,-350) 46(459.45,-300) 47(459.45,-250) 48(459.45,-200) 49(459.45,-150) 50(459.45,-100) 51(459.45,-50) 52(459.45,0) 53(459.45,50) 54(459.45,100) 55(459.45,150) 56(459.45,200) 57(459.45,250) 58(459.45,300) 59(459.45,350) 60(459.45,400)
Top Overlay:
  drawing of 157 lines, arcs and shapes, not listed
Mechanical 16:
  circle w2: c0,384.65 r19.69
  rectangle: 476.38,85.04 494.88,114.96
  rectangle: 476.38,35.04 494.88,64.96
  rectangle: 476.38,-14.96 494.88,14.96
  rectangle: 476.38,-64.96 494.88,-35.04
  rectangle: 476.38,-114.96 494.88,-85.04
  rectangle: 476.38,-164.96 494.88,-135.04
  rectangle: 476.38,-214.96 494.88,-185.04
  rectangle: 135.04,-494.88 164.96,-476.38
  rectangle: 85.04,-494.88 114.96,-476.38
  rectangle: 35.04,-494.88 64.96,-476.38
  rectangle: -14.96,-494.88 14.96,-476.38
  rectangle: -64.96,-494.88 -35.04,-476.38
  rectangle: -114.96,-494.88 -85.04,-476.38
  rectangle: -414.96,-494.88 -385.04,-476.38
  rectangle: -494.88,185.04 -476.38,214.96
  rectangle: -494.88,135.04 -476.38,164.96
  rectangle: -494.88,85.04 -476.38,114.96
  rectangle: -494.88,35.04 -476.38,64.96
  rectangle: -494.88,-14.96 -476.38,14.96
  rectangle: -494.88,-64.96 -476.38,-35.04
  rectangle: -494.88,-114.96 -476.38,-85.04
  rectangle: 135.04,476.38 164.96,494.88
  rectangle: 85.04,476.38 114.96,494.88
  rectangle: 35.04,476.38 64.96,494.88
  rectangle: -14.96,476.38 14.96,494.88
  rectangle: -64.96,476.38 -35.04,494.88
  rectangle: -114.96,476.38 -85.04,494.88
  rectangle: -414.96,476.38 -385.04,494.88
  rectangle: 476.38,135.04 494.88,164.96
  rectangle: 476.38,185.04 494.88,214.96
  rectangle: -494.88,-164.96 -476.38,-135.04
  rectangle: -494.88,-214.96 -476.38,-185.04
  rectangle: 185.04,476.38 214.96,494.88
  rectangle: 235.04,476.38 264.96,494.88
  rectangle: -164.96,476.38 -135.04,494.88
  rectangle: -214.96,476.38 -185.04,494.88
  rectangle: -494.88,-264.96 -476.38,-235.04
  rectangle: -214.96,-494.88 -185.04,-476.38
  rectangle: -164.96,-494.88 -135.04,-476.38
  rectangle: 185.04,-494.88 214.96,-476.38
  rectangle: 235.04,-494.88 264.96,-476.38
  rectangle: 476.38,-264.96 494.88,-235.04
  rectangle: 476.38,235.04 494.88,264.96
  rectangle: -494.88,235.04 -476.38,264.96
  rectangle: -264.96,-494.88 -235.04,-476.38
  rectangle: -314.96,-494.88 -285.04,-476.38
  rectangle: -364.96,-494.88 -335.04,-476.38
  rectangle: -494.88,-314.96 -476.38,-285.04
  rectangle: -494.88,-364.96 -476.38,-335.04
  rectangle: -494.88,-414.96 -476.38,-385.04
  rectangle: -494.88,285.04 -476.38,314.96
  rectangle: -494.88,335.04 -476.38,364.96
  rectangle: -494.88,385.04 -476.38,414.96
  rectangle: -264.96,476.38 -235.04,494.88
  rectangle: -314.96,476.38 -285.04,494.88
  rectangle: -364.96,476.38 -335.04,494.88
  rectangle: 476.38,285.04 494.88,314.96
  rectangle: 476.38,335.04 494.88,364.96
  rectangle: 476.38,385.04 494.88,414.96
  rectangle: 285.04,476.38 314.96,494.88
  rectangle: 335.04,476.38 364.96,494.88
  rectangle: 385.04,476.38 414.96,494.88
  rectangle: 476.38,-314.96 494.88,-285.04
  rectangle: 476.38,-364.96 494.88,-335.04
  rectangle: 476.38,-414.96 494.88,-385.04
  rectangle: 285.04,-494.88 314.96,-476.38
  rectangle: 335.04,-494.88 364.96,-476.38
  rectangle: 385.04,-494.88 414.96,-476.38
  lines w2: -476.38,-456.69 -456.69,-446.85 ; -476.38,427.17 -456.69,427.17 ; -456.69,-476.38 -446.85,-456.69 ; -414.96,476.38 -456.69,427.17 ; 456.69,-476.38 446.85,-456.69 ; 476.38,-456.69 456.69,-446.85 ; 476.38,456.69 456.69,427.17 ; -456.69,-446.85 -446.85,-456.69 ; -456.69,-446.85 -456.69,427.17 ; -456.69,427.17 456.69,427.17 ; -446.85,-456.69 446.85,-456.69 ; 446.85,-456.69 456.69,-446.85 ; 456.69,-446.85 456.69,427.17
  lines w6: -476.38,-456.69 -456.69,-476.38 456.69,-476.38 476.38,-456.69 476.38,456.69 456.69,476.38 -414.96,476.38 -476.38,427.17 -476.38,-456.69

## PLCC68-S [mil]
pads (68):
  round 48 hole 32: 1(0,500)
  oct 48x48 hole 32: 2(0,400) 3(-100,500) 4(-100,400) 5(-200,500) 6(-200,400) 7(-300,500) 8(-300,400) 9(-400,500) 10(-500,400) 11(-400,400) 12(-500,300) 13(-400,300) 14(-500,200) 15(-400,200) 16(-500,100) 17(-400,100) 18(-500,0) 19(-400,0) 20(-500,-100) 21(-400,-100) 22(-500,-200) 23(-400,-200) 24(-500,-300) 25(-400,-300) 26(-500,-400) 27(-400,-500) 28(-400,-400) 29(-300,-500) 30(-300,-400) 31(-200,-500) 32(-200,-400) 33(-100,-500) 34(-100,-400) 35(0,-500) 36(0,-400) 37(100,-500) 38(100,-400) 39(200,-500) 40(200,-400) 41(300,-500) 42(300,-400) 43(400,-500) 44(500,-400) 45(400,-400) 46(500,-300) 47(400,-300) 48(500,-200) 49(400,-200) 50(500,-100) 51(400,-100) 52(500,0) 53(400,0) 54(500,100) 55(400,100) 56(500,200) 57(400,200) 58(500,300) 59(400,300) 60(500,400) 61(400,500) 62(400,400) 63(300,500) 64(300,400) 65(200,500) 66(200,400) 67(100,500) 68(100,400)
Top Overlay:
  drawing of 259 lines, arcs and shapes, not listed
  text "68" at 475,-575 h77.5
Mechanical 16:
  drawing of 207 lines, arcs and shapes, not listed